# EAGLE library part 53?-11 (library gen3)
CONNECTOR wire to board 1.25 mm (.049 inch) pitch header
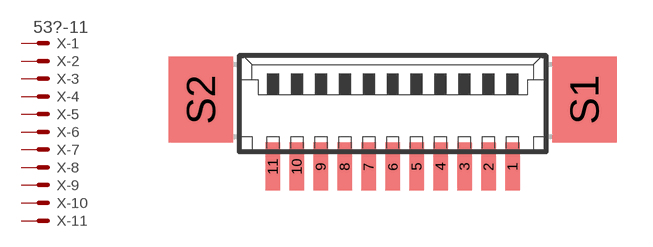
[diagram p5: symbol with the pads of GEN3CON; footprint GEN3CON]

Designator prefix X; gates -1=MV -2=M -3=M -4=M -5=M -6=M -7=M -8=M -9=M -10=M -11=M

## 53261-11 (MPN: 53261-1171; OC_FARNELL: 1756926; OC_NEWARK: 58K8238)  [GEN3CON]
1  -1:S  pas
2  -2:S  pas
3  -3:S  pas
4  -4:S  pas
5  -5:S  pas
6  -6:S  pas
7  -7:S  pas
8  -8:S  pas
9  -9:S  pas
10  -10:S  pas
11  -11:S  pas

## Footprint GEN3CON (pad centres in mm)
CONNECTOR wire to board 1 mm (.0394 inch) pitch header SMT digikey: A101390CT-ND
smd 0.61 x 2: 1 5,-2; 2 4,-2; 3 3,-2; 4 2,-2; 5 1,-2; 7 -1,-2; 8 -2,-2; 9 -3,-2; 10 -4,-2; 11 -5,-2
smd 0.6 x 2: 6 0,-2
smd 2.68 x 3.6: S1 8,0.8; S2 -8,0.8